# Altium footprint library Inductors Chokes.PcbLib: 3 footprints
Each footprint in its own frame and in the unit in brackets; x right, y up, seen from the top. Pads: shape width x height; smd on the part's side, far side on the other; paste and mask are expansions set on the pad; w line width, h text height; cw(c..) or ccw(c..) is an arc to the next point about the centre after c.
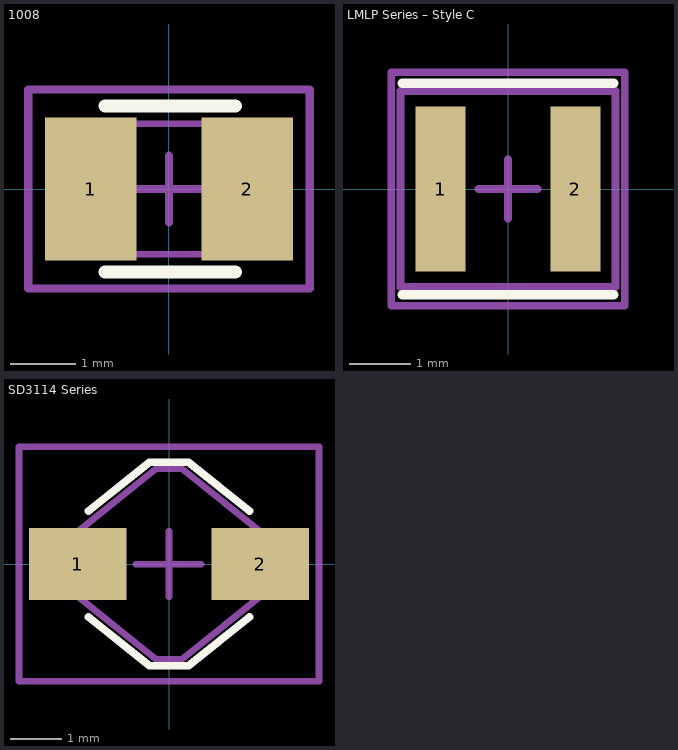
[diagram p0: the footprints below, top view; thin cyan lines are the x and y axes]

## 1008 [mm] "10 by 08 footprint"
pads (2):
  rect 1.4x2.2 smd: 1(-1.2,0) 2(1.2,0)
Top Overlay:
  lines w0.2: -0.984,-1.27 1.016,-1.27 ; -0.984,1.27 1.016,1.27
Top Component Center:
  lines w0.127: -0.508,0 0,0 ; 0,-0.508 0,0 ; 0,0.508 0,0 ; 0.508,0 0,0
Top Component Outline:
  lines w0.1: -1.25,-1 -1.25,1 1.25,1 1.25,-1 -1.25,-1
Top Courtyard:
  lines w0.127: -2.159,-1.524 2.159,-1.524 2.159,1.524 -2.159,1.524 -2.159,-1.524
3D body "DFE252008U-100M=P2.stp": height 0.8, standoff 0, extent -1.25,-1 1.25,1

## LMLP Series – Style C [mil] "3 mm x 1.5 mm x 3 mm Kyocera AVC Inductor"
pads (2):
  rect 32x106 smd paste+0 mask+0: 1(-43.31,0) 2(43.31,0)
Top Overlay:
  lines w6: -68,-68 68,-68 ; -68,68 68,68
Top Component Center:
  lines w5: -19,0 0,0 ; 0,-19 0,0 ; 0,19 0,0 ; 19,0 0,0 ; -75,-75 75,-75 75,75 -75,75 -75,-75
Top Component Outline:
  lines w5: -69,-63 -69,63 69,63 69,-63 -69,-63
3D body "IND_LMLPC_03B3_KYO.step": height 60.98, standoff 0, extent -69.02,-62.99 69.02,62.99

## SD3114 Series [mil] "Footprint for the SD3114 Series of Inductors by Eaton"
pads (2):
  rect 75x55 smd paste+0 mask+0: 1(-70,0) 2(70,0)
Top Overlay:
  lines w6: -61.66,-40.6 -15,-78 15,-78 61.66,-40.6 ; -61.66,40.6 -15,78 15,78 61.66,40.6
Top Component Center:
  lines w5: -25.4,-0.03 24.6,-0.03 ; 0,-25 0,25
Top Component Outline:
  lines w5: -73,-22.5 -10,-73 10,-73 73,-22.5 73,22.5 10,73 -10,73 -73,22.5 -73,-22.5
Top Courtyard:
  lines w5: -115,-90 115,-90 115,90 -115,90 -115,-90
3D body "SD3114.step": height 67.01, standoff 0, extent -85,-72.99 85,72.99